# Altium schematic symbol library WS-RPTL.SchLib: 1 symbol
Pins are listed as number, name and electrical type; pins without a type are passive.

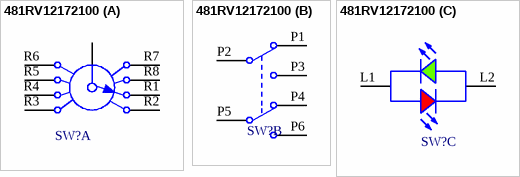
[diagram p0: symbol 481RV12172100]

## 481RV12172100
designator SW?  (value not drawn)
WS-RPTL Illuminated THT Rotary Push Button Switch, Red & Bright Green, 30VDC, 100mA, 250g; Manufacturer: Wurth Elektronik; ComponentLink1Description: Website Link; ComponentLink1URL: https://www.we-online.com/redexpert/article/481RV12172100?ad; ComponentLink2Description: Datasheet Link; ComponentLink2URL: https://www.we-online.com/redexpert/spec/481RV12172100?ad; Manufacturer Part Number: 481RV12172100; Category: Illuminated Switches; Match Code: WS-RPTL; Mount: Through Hole; Operating Temperature Max: 85°C; Operating Temperature Min: -40°C; Packaging: ESD Tray; Length: 20.4mm; Width: 19.75mm; Height: 14.45mm; Contact Material: Brass; Contact Plating: Silver; Operation Force: 250g; Emitting Color: Red & Bright Green; Rated Current: 100mA; Rated Voltage: 30VDC; Terminal Material: Brass; Terminal Plating: Silver
footprint 481RV12172100
part A pins: C, R1, R2, R3, R4, R5, R6, R7, R8
part B pins: P1, P2, P3, P4, P5, P6
part C pins: L1, L2